# Altium schematic symbol library Silicon Labs Interface.SchLib: 24 symbols (part 2 of 2)
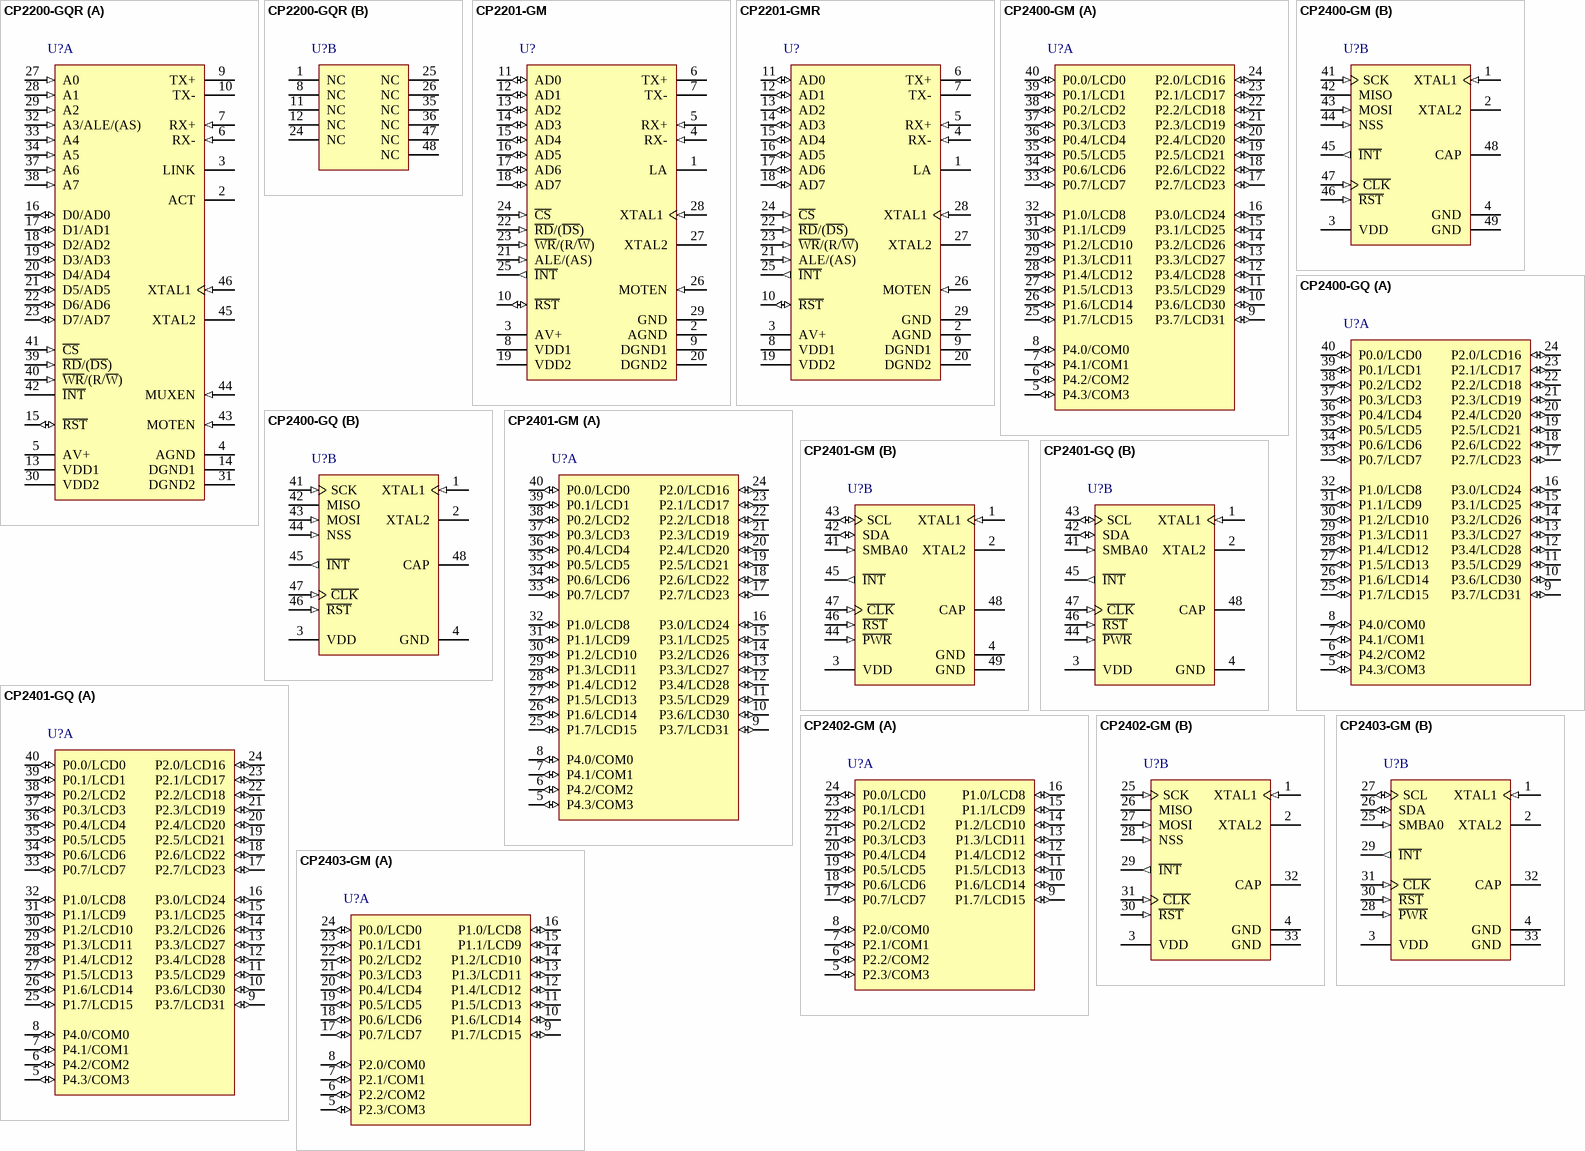
[diagram p2: symbols CP2200-GQR to CP2403-GM]

## CP2200-GQR
designator U?
Single-Chip Ethernet Controller, 30 Mbps, 8 kB Flash, -40 to 85 degC, 48-pin QFP, Tape and Reel; Manufacturer: Silicon Labs; PartNumber: CP2200-GQR; Flash: 8 kB; Parallel Host Interface: 8-bit non-multiplexed EMIF; Parallel Host Interface Speed: 30 Mbps; Pre-Programmed MAC Address: TRUE; RAM Size: 2 kB TX buffer; 4 kB RX buffer; Sub-Family: Ethernet Controllers; DatasheetVersion: Rev. 1.0; PackageReference: TQFP-48; PackageDescription: 48-pin TQFP, Body 7 x 7 mm, Pitch 0.5 mm; Supplier 1: Digi-Key; Supplier Part Number 1: CP2200-GQR-ND; Supplier 2: Mouser; Supplier Part Number 2: 634-CP2200-GQR; Packing: Tape and Reel; Mounting Technology: Surface Mount; Code_JEDEC: MS-026; Code_IPC: J-STD-020; ComponentLink1Description: Manufacturer URL; ComponentLink1URL: http://www.silabs.com/; ComponentLink2Description: Datasheet; ComponentLink2URL: http://www.silabs.com/Support Documents/TechnicalDocs/CP2200.pdf; ComponentLink3Description: Package Specification; ComponentLink3URL: http://www.silabs.com/Support%20Documents/TechnicalDocs/CP2200.pdf
footprint SLAB-TQFP-48_N (QFP, 48-Leads, Body 7x7mm, Pitch 0.5mm, IPC Medium Density)
footprint SLAB-TQFP-48_L (QFP, 48-Leads, Body 7x7mm, Pitch 0.5mm, IPC High Density)
footprint SLAB-TQFP-48_M (QFP, 48-Leads, Body 7x7mm, Pitch 0.5mm, IPC Low Density)
part A pins: 2 ACT (hiz) "Activity LED. Push-pull output driven high for 50 ms when any packet is transmitted or received and driven low all other times.", 3 LINK (hiz) "Link LED. Push-pull output driven high when valid 10BASE-T link pulses are detected (Link Good) and driven low when valid 10BASE-T link pulses are not detected (Link Fail).", 4 AGND (power) "Analog Ground", 5 AV+ (power) "3.1-3.6 V Analog Power Supply Voltage Input.", 6 RX- (in) "10BASE-T Receive, Differential Input (Negative).", 7 RX+ (in) "10BASE-T Receive, Differential Input (Positive).", 9 TX+ (hiz) "10BASE-T Transmit, Differential Output (Positive).", 10 TX- (hiz) "10BASE-T Transmit, Differential Output (Negative).", 13 VDD1 (power) "3.1-3.6 V Digital Power Supply Voltage Input.", 14 DGND1 (power) "Digital Ground", 15 ~{RST} (io) "Device Reset. Open-drain output of internal POR and VDD monitor. An external source can initiate a system reset by driving this pin low for at least 15 us.", 16 D0/AD0 (io), 17 D1/AD1 (io), 18 D2/AD2 (io), 19 D3/AD3 (io), 20 D4/AD4 (io), 21 D5/AD5 (io), 22 D6/AD6 (io), 23 D7/AD7 (io), 27 A0 (in) "Bit 0, Non-Multiplexed Address Bus", 28 A1 (in) "Bit 1, Non-Multiplexed Address Bus", 29 A2 (in) "Bit 2, Non-Multiplexed Address Bus", 30 VDD2 (power) "3.1-3.6 V Digital Power Supply Voltage Input.", 31 DGND2 (power) "Digital Ground", 32 A3/ALE/(AS) (in), 33 A4 (in) "Bit 4, Parallel Interface Non-Multiplexed Address Bus", 34 A5 (in) "Bit 5, Parallel Interface Non-Multiplexed Address Bus", 37 A6 (in) "Bit 6, Parallel Interface Non-Multiplexed Address Bus", 38 A7 (in) "Bit 7, Parallel Interface Non-Multiplexed Address Bus", 39 ~{RD}/(~{DS}) (in) "Read Strobe (Intel Mode) or Data Strobe (Motorola Mode)", 40 ~{WR}/(R/~{W}) (in) "Write Strobe (Intel Mode) or Read/Write Strobe (Motorola Mode)", 41 ~{CS} (in) "Device Chip Select.", 42 ~{INT} (hiz) "Interrupt Service Request. This pin provides notification to the host.", 43 MOTEN (in) "Motorola Bus Format Enable. This pin should be tied directly to VDD for Motorola bus format or directly to GND for Intel bus format.", 44 MUXEN (in) "Multiplexed Bus Enable. This pin should be tied directly to VDD for multiplexed bus mode or directly to GND for non-multiplexed bus mode.", 45 XTAL2 "Crystal Output. This pin is the excitation driver for a quartz crystal.", 46 XTAL1 (in) "Crystal Input. This pin is the return for the external oscillator driver. This pin can be overdriven by an external CMOS clock."
part B pins: 1 NC "These pins should be left unconnected or tied to VDD.", 8 NC "These pins should be left unconnected or tied to VDD.", 11 NC "These pins should be left unconnected or tied to VDD.", 12 NC "These pins should be left unconnected or tied to VDD.", 24 NC "These pins should be left unconnected or tied to VDD.", 25 NC "These pins should be left unconnected or tied to VDD.", 26 NC "These pins should be left unconnected or tied to VDD.", 35 NC "These pins should be left unconnected or tied to VDD.", 36 NC "These pins should be left unconnected or tied to VDD.", 47 NC "These pins should be left unconnected or tied to VDD.", 48 NC "These pins should be left unconnected or tied to VDD."

## CP2201-GM
designator U?
Single-Chip Ethernet Controller, 30 Mbps, 8 kB Flash, -40 to 85 degC, 28-pin QFN, Tube; Manufacturer: Silicon Labs; PartNumber: CP2201-GM; Flash: 8 kB; Parallel Host Interface: 8-bit multiplexed EMIF; Parallel Host Interface Speed: 30 Mbps; Pre-Programmed MAC Address: TRUE; RAM Size: 2 kB TX buffer; 4 kB RX buffer; Sub-Family: Ethernet Controllers; DatasheetVersion: Rev. 1.0; PackageReference: QFN-28; PackageDescription: 28-Pin Quad-Flat No-Leads Package, Body 5 x 5 mm, Pitch 0.5 mm; Supplier 1: Digi-Key; Supplier Part Number 1: 336-1313-ND; Supplier 2: Farnell; Supplier Part Number 2: 1186939; Supplier 3: Newark; Supplier Part Number 3: 96K8068; Supplier 4: Mouser; Supplier Part Number 4: 634-CP2201-GM; Packing: Tube; Mounting Technology: Surface Mount; ComponentLink1Description: Manufacturer URL; ComponentLink1URL: http://www.silabs.com/; ComponentLink2Description: Datasheet; ComponentLink2URL: http://www.silabs.com/Support Documents/TechnicalDocs/CP2200.pdf; ComponentLink3Description: Package Specification; ComponentLink3URL: http://www.silabs.com/Support%20Documents/TechnicalDocs/C8051F31x.pdf
footprint SLAB-QFN-28-3125x3125TP_B_V (QFN, 28-Leads, Body 5x5mm, Pitch 0.5mm, Thermal Pad 3.15x3.15mm)
pins: 1 LA (hiz) "Link or Activity LED. Push-pull output driven high when valid link pulses are detected (Link Good) and driven low otherwise (Link Fail). The output is toggled for each packet transmitted or received, then returns to its (See Datasheet)", 2 AGND (power) "Analog Ground", 3 AV+ (power) "3.1-3.6 V Analog Power Supply Voltage Input.", 4 RX- (in) "10BASE-T Receive, Differential Input (Negative).", 5 RX+ (in) "10BASE-T Receive, Differential Input (Positive).", 6 TX+ (hiz) "10BASE-T Transmit, Differential Output (Positive).", 7 TX- (hiz) "10BASE-T Transmit, Differential Output (Negative).", 8 VDD1 (power) "3.1-3.6 V Digital Power Supply Voltage Input.", 9 DGND1 (power) "Digital Ground", 10 ~{RST} (io) "Device Reset. Open-drain output of internal POR and VDD monitor. An external source can initiate a system reset by driving this pin low for at least 15 us.", 11 AD0 (io) "Bit 0, Non-Multiplexed Data Bus or Multiplexed Address/Data Bus", 12 AD1 (io) "Bit 1, Non-Multiplexed Data Bus or Multiplexed Address/Data Bus", 13 AD2 (io) "Bit 2, Non-Multiplexed Data Bus or Multiplexed Address/Data Bus", 14 AD3 (io) "Bit 3, Non-Multiplexed Data Bus or Multiplexed Address/Data Bus", 15 AD4 (io) "Bit 4, Non-Multiplexed Data Bus or Multiplexed Address/Data Bus", 16 AD5 (io) "Bit 5, Non-Multiplexed Data Bus or Multiplexed Address/Data Bus", 17 AD6 (io) "Bit 6, Non-Multiplexed Data Bus or Multiplexed Address/Data Bus", 18 AD7 (io) "Bit 7, Non-Multiplexed Data Bus or Multiplexed Address/Data Bus", 19 VDD2 (power) "3.1-3.6 V Digital Power Supply Voltage Input.", 20 DGND2 (power) "Digital Ground", 21 ALE/(AS) (in) "ALE Strobe (Intel Mode) Address Strobe (Motorola Mode)", 22 ~{RD}/(~{DS}) (in) "Read Strobe (Intel Mode) or Data Strobe (Motorola Mode)", 23 ~{WR}/(R/~{W}) (in) "Write Strobe (Intel Mode) or Read/Write Strobe (Motorola Mode)", 24 ~{CS} (in) "Device Chip Select.", 25 ~{INT} (out) "Interrupt Service Request. This pin provides notification to the host.", 26 MOTEN (in) "Motorola Bus Format Enable. This pin should be tied directly to VDD for Motorola bus format or directly to GND for Intel bus format.", 27 XTAL2 "Crystal Output. This pin is the excitation driver for a quartz crystal.", 28 XTAL1 (in) "Crystal Input. This pin is the return for the external oscillator driver. This pin can be overdriven by an external CMOS clock.", 29 GND (power)

## CP2201-GMR
designator U?
Single-Chip Ethernet Controller, 30 Mbps, 8 kB Flash, -40 to 85 degC, 28-pin QFN, Tape and Reel; Manufacturer: Silicon Labs; PartNumber: CP2201-GMR; Flash: 8 kB; Parallel Host Interface: 8-bit multiplexed EMIF; Parallel Host Interface Speed: 30 Mbps; Pre-Programmed MAC Address: TRUE; RAM Size: 2 kB TX buffer; 4 kB RX buffer; Sub-Family: Ethernet Controllers; DatasheetVersion: Rev. 1.0; PackageReference: QFN-28; PackageDescription: 28-Pin Quad-Flat No-Leads Package, Body 5 x 5 mm, Pitch 0.5 mm; Supplier 1: Digi-Key; Supplier Part Number 1: CP2201-GMR-ND; Supplier 2: Mouser; Supplier Part Number 2: 634-CP2201-GMR; Packing: Tape and Reel; Mounting Technology: Surface Mount; ComponentLink1Description: Manufacturer URL; ComponentLink1URL: http://www.silabs.com/; ComponentLink2Description: Datasheet; ComponentLink2URL: http://www.silabs.com/Support Documents/TechnicalDocs/CP2200.pdf; ComponentLink3Description: Package Specification; ComponentLink3URL: http://www.silabs.com/Support%20Documents/TechnicalDocs/C8051F31x.pdf
footprint SLAB-QFN-28-3125x3125TP_B_V (QFN, 28-Leads, Body 5x5mm, Pitch 0.5mm, Thermal Pad 3.15x3.15mm)
pins: 1 LA (hiz) "Link or Activity LED. Push-pull output driven high when valid link pulses are detected (Link Good) and driven low otherwise (Link Fail). The output is toggled for each packet transmitted or received, then returns to its (See Datasheet)", 2 AGND (power) "Analog Ground", 3 AV+ (power) "3.1-3.6 V Analog Power Supply Voltage Input.", 4 RX- (in) "10BASE-T Receive, Differential Input (Negative).", 5 RX+ (in) "10BASE-T Receive, Differential Input (Positive).", 6 TX+ (hiz) "10BASE-T Transmit, Differential Output (Positive).", 7 TX- (hiz) "10BASE-T Transmit, Differential Output (Negative).", 8 VDD1 (power) "3.1-3.6 V Digital Power Supply Voltage Input.", 9 DGND1 (power) "Digital Ground", 10 ~{RST} (io) "Device Reset. Open-drain output of internal POR and VDD monitor. An external source can initiate a system reset by driving this pin low for at least 15 us.", 11 AD0 (io) "Bit 0, Non-Multiplexed Data Bus or Multiplexed Address/Data Bus", 12 AD1 (io) "Bit 1, Non-Multiplexed Data Bus or Multiplexed Address/Data Bus", 13 AD2 (io) "Bit 2, Non-Multiplexed Data Bus or Multiplexed Address/Data Bus", 14 AD3 (io) "Bit 3, Non-Multiplexed Data Bus or Multiplexed Address/Data Bus", 15 AD4 (io) "Bit 4, Non-Multiplexed Data Bus or Multiplexed Address/Data Bus", 16 AD5 (io) "Bit 5, Non-Multiplexed Data Bus or Multiplexed Address/Data Bus", 17 AD6 (io) "Bit 6, Non-Multiplexed Data Bus or Multiplexed Address/Data Bus", 18 AD7 (io) "Bit 7, Non-Multiplexed Data Bus or Multiplexed Address/Data Bus", 19 VDD2 (power) "3.1-3.6 V Digital Power Supply Voltage Input.", 20 DGND2 (power) "Digital Ground", 21 ALE/(AS) (in) "ALE Strobe (Intel Mode) Address Strobe (Motorola Mode)", 22 ~{RD}/(~{DS}) (in) "Read Strobe (Intel Mode) or Data Strobe (Motorola Mode)", 23 ~{WR}/(R/~{W}) (in) "Write Strobe (Intel Mode) or Read/Write Strobe (Motorola Mode)", 24 ~{CS} (in) "Device Chip Select.", 25 ~{INT} (out) "Interrupt Service Request. This pin provides notification to the host.", 26 MOTEN (in) "Motorola Bus Format Enable. This pin should be tied directly to VDD for Motorola bus format or directly to GND for Intel bus format.", 27 XTAL2 "Crystal Output. This pin is the excitation driver for a quartz crystal.", 28 XTAL1 (in) "Crystal Input. This pin is the return for the external oscillator driver. This pin can be overdriven by an external CMOS clock.", 29 GND (power)

## CP2400-GM
designator U?
128 Segment LCD Driver, Ultra-low power mode, SPI Interface, -40 to 85 degC, 48-pin QFN, Tube; Manufacturer: Silicon Labs; PartNumber: CP2400-GM; Internal Oscillator: TRUE; LCD Segments: 128; RAM: 256 Bytes; Timers (16-bit): 2; Sub-Family: LCD Controllers; DatasheetVersion: Rev. 1.0; PackageReference: QFN-48; PackageDescription: 48-Pin Quad-Flat No-Leads Package, Body 7 x 7 mm, Pitch 0.5 mm; Supplier 1: Digi-Key; Supplier Part Number 1: 336-1855-5-ND; Supplier 2: Mouser; Supplier Part Number 2: 634-CP2400-GM; Mounting Technology: Surface Mount; Code_JEDEC: MO-220; Code_IPC: J-STD-020; ComponentLink1Description: Manufacturer URL; ComponentLink1URL: http://www.silabs.com/; ComponentLink2Description: Datasheet; ComponentLink2URL: http://www.silabs.com/Support Documents/TechnicalDocs/CP2400-1-2-3.pdf; ComponentLink3Description: Package Specification; ComponentLink3URL: http://www.silabs.com/Support%20Documents/TechnicalDocs/C8051F50x-51x.pdf
footprint SLAB-QFN-48-4000x4000TP_N (QFN, 48-Leads, Body 7x7mm, Pitch 0.5mm, Thermal Pad 4x4mm, IPC Medium Density)
footprint SLAB-QFN-48-4000x4000TP_L (QFN, 48-Leads, Body 7x7mm, Pitch 0.5mm, Thermal Pad 4x4mm, IPC High Density)
footprint SLAB-QFN-48-4000x4000TP_M (QFN, 48-Leads, Body 7x7mm, Pitch 0.5mm, Thermal Pad 4x4mm, IPC Low Density)
part A pins: 5 P4.3/COM3 (io), 6 P4.2/COM2 (io), 7 P4.1/COM1 (io), 8 P4.0/COM0 (io), 9 P3.7/LCD31 (io), 10 P3.6/LCD30 (io), 11 P3.5/LCD29 (io), 12 P3.4/LCD28 (io), 13 P3.3/LCD27 (io), 14 P3.2/LCD26 (io), 15 P3.1/LCD25 (io), 16 P3.0/LCD24 (io), 17 P2.7/LCD23 (io), 18 P2.6/LCD22 (io), 19 P2.5/LCD21 (io), 20 P2.4/LCD20 (io), 21 P2.3/LCD19 (io), 22 P2.2/LCD18 (io), 23 P2.1/LCD17 (io), 24 P2.0/LCD16 (io), 25 P1.7/LCD15 (io), 26 P1.6/LCD14 (io), 27 P1.5/LCD13 (io), 28 P1.4/LCD12 (io), 29 P1.3/LCD11 (io), 30 P1.2/LCD10 (io), 31 P1.1/LCD9 (io), 32 P1.0/LCD8 (io), 33 P0.7/LCD7 (io), 34 P0.6/LCD6 (io), 35 P0.5/LCD5 (io), 36 P0.4/LCD4 (io), 37 P0.3/LCD3 (io), 38 P0.2/LCD2 (io), 39 P0.1/LCD1 (io), 40 P0.0/LCD0 (io)
part B pins: 1 XTAL1 (in) "Crystal Input. This pin is the return for the external oscillator driver. This pin can be overdriven by an external CMOS clock.", 2 XTAL2 "Crystal Output. This pin is the excitation driver for a quartz crystal.", 3 VDD (power) "1.8-3.6 V Power Supply Voltage Input.", 4 GND (power) "Ground", 41 SCK (in) "Clock signal for SPI interface. This pin should not be left floating.", 42 MISO (hiz) "Master In/Slave Out data signal for SPI interface", 43 MOSI (in) "Master Out/Slave In data signal for SPI interface. This pin should not be left floating.", 44 NSS (in) "Slave select signal for SPI interface. This pin should not be left floating.", 45 ~{INT} (out) "Interrupt Service Request. This pin provides notification to the host. This pin is a push-pull output.", 46 ~{RST} (in) "Device Reset. An external source can initiate a system reset by driving this pin low for at least 15 us. This pin has an internal weak pullup.", 47 ~{CLK} (in) "CMOS clock input. This pin should not be left floating.", 48 CAP (power) "LCD Power Supply Voltage Output. This pin requires a 10 uF decoupling capacitor.", 49 GND (power) "Ground"

## CP2400-GQ
designator U?
128 Segment LCD Driver, Ultra-low power mode, SPI Interface, -40 to 85 degC, 48-pin QFP, Tray; Manufacturer: Silicon Labs; PartNumber: CP2400-GQ; Internal Oscillator: TRUE; LCD Segments: 128; RAM: 256 Bytes; Timers (16-bit): 2; Sub-Family: LCD Controllers; DatasheetVersion: Rev. 1.0; PackageReference: TQFP-48; PackageDescription: 48-pin TQFP, Body 7 x 7 mm, Pitch 0.5 mm; Supplier 1: Digi-Key; Supplier Part Number 1: 336-1856-ND; Supplier 2: Mouser; Supplier Part Number 2: 634-CP2400-GQ; Mounting Technology: Surface Mount; Code_JEDEC: MS-026; Code_IPC: J-STD-020; ComponentLink1Description: Manufacturer URL; ComponentLink1URL: http://www.silabs.com/; ComponentLink2Description: Datasheet; ComponentLink2URL: http://www.silabs.com/Support Documents/TechnicalDocs/CP2400-1-2-3.pdf; ComponentLink3Description: Package Specification; ComponentLink3URL: http://www.silabs.com/Support%20Documents/TechnicalDocs/CP2200.pdf
footprint SLAB-TQFP-48_N (QFP, 48-Leads, Body 7x7mm, Pitch 0.5mm, IPC Medium Density)
footprint SLAB-TQFP-48_L (QFP, 48-Leads, Body 7x7mm, Pitch 0.5mm, IPC High Density)
footprint SLAB-TQFP-48_M (QFP, 48-Leads, Body 7x7mm, Pitch 0.5mm, IPC Low Density)
part A pins: 5 P4.3/COM3 (io), 6 P4.2/COM2 (io), 7 P4.1/COM1 (io), 8 P4.0/COM0 (io), 9 P3.7/LCD31 (io), 10 P3.6/LCD30 (io), 11 P3.5/LCD29 (io), 12 P3.4/LCD28 (io), 13 P3.3/LCD27 (io), 14 P3.2/LCD26 (io), 15 P3.1/LCD25 (io), 16 P3.0/LCD24 (io), 17 P2.7/LCD23 (io), 18 P2.6/LCD22 (io), 19 P2.5/LCD21 (io), 20 P2.4/LCD20 (io), 21 P2.3/LCD19 (io), 22 P2.2/LCD18 (io), 23 P2.1/LCD17 (io), 24 P2.0/LCD16 (io), 25 P1.7/LCD15 (io), 26 P1.6/LCD14 (io), 27 P1.5/LCD13 (io), 28 P1.4/LCD12 (io), 29 P1.3/LCD11 (io), 30 P1.2/LCD10 (io), 31 P1.1/LCD9 (io), 32 P1.0/LCD8 (io), 33 P0.7/LCD7 (io), 34 P0.6/LCD6 (io), 35 P0.5/LCD5 (io), 36 P0.4/LCD4 (io), 37 P0.3/LCD3 (io), 38 P0.2/LCD2 (io), 39 P0.1/LCD1 (io), 40 P0.0/LCD0 (io)
part B pins: 1 XTAL1 (in) "Crystal Input. This pin is the return for the external oscillator driver. This pin can be overdriven by an external CMOS clock.", 2 XTAL2 "Crystal Output. This pin is the excitation driver for a quartz crystal.", 3 VDD (power) "1.8-3.6 V Power Supply Voltage Input.", 4 GND (power) "Ground", 41 SCK (in) "Clock signal for SPI interface. This pin should not be left floating.", 42 MISO (hiz) "Master In/Slave Out data signal for SPI interface", 43 MOSI (in) "Master Out/Slave In data signal for SPI interface. This pin should not be left floating.", 44 NSS (in) "Slave select signal for SPI interface. This pin should not be left floating.", 45 ~{INT} (out) "Interrupt Service Request. This pin provides notification to the host. This pin is a push-pull output.", 46 ~{RST} (in) "Device Reset. An external source can initiate a system reset by driving this pin low for at least 15 us. This pin has an internal weak pullup.", 47 ~{CLK} (in) "CMOS clock input. This pin should not be left floating.", 48 CAP (power) "LCD Power Supply Voltage Output. This pin requires a 10 uF decoupling capacitor."

## CP2401-GM
designator U?
128 Segment LCD Driver, Ultra-low power mode, SMBus / I2C Interface, -40 to 85 degC, 48-pin QFN, Tube; Manufacturer: Silicon Labs; PartNumber: CP2401-GM; Internal Oscillator: TRUE; LCD Segments: 128; RAM: 256 Bytes; Timers (16-bit): 2; Sub-Family: LCD Controllers; DatasheetVersion: Rev. 1.0; PackageReference: QFN-48; PackageDescription: 48-Pin Quad-Flat No-Leads Package, Body 7 x 7 mm, Pitch 0.5 mm; Supplier 1: Digi-Key; Supplier Part Number 1: 336-1859-5-ND; Supplier 2: Mouser; Supplier Part Number 2: 634-CP2401-GM; Mounting Technology: Surface Mount; Code_JEDEC: MO-220; Code_IPC: J-STD-020; ComponentLink1Description: Manufacturer URL; ComponentLink1URL: http://www.silabs.com/; ComponentLink2Description: Datasheet; ComponentLink2URL: http://www.silabs.com/Support Documents/TechnicalDocs/CP2400-1-2-3.pdf; ComponentLink3Description: Package Specification; ComponentLink3URL: http://www.silabs.com/Support%20Documents/TechnicalDocs/C8051F50x-51x.pdf
footprint SLAB-QFN-48-4000x4000TP_N (QFN, 48-Leads, Body 7x7mm, Pitch 0.5mm, Thermal Pad 4x4mm, IPC Medium Density)
footprint SLAB-QFN-48-4000x4000TP_L (QFN, 48-Leads, Body 7x7mm, Pitch 0.5mm, Thermal Pad 4x4mm, IPC High Density)
footprint SLAB-QFN-48-4000x4000TP_M (QFN, 48-Leads, Body 7x7mm, Pitch 0.5mm, Thermal Pad 4x4mm, IPC Low Density)
part A pins: 5 P4.3/COM3 (io), 6 P4.2/COM2 (io), 7 P4.1/COM1 (io), 8 P4.0/COM0 (io), 9 P3.7/LCD31 (io), 10 P3.6/LCD30 (io), 11 P3.5/LCD29 (io), 12 P3.4/LCD28 (io), 13 P3.3/LCD27 (io), 14 P3.2/LCD26 (io), 15 P3.1/LCD25 (io), 16 P3.0/LCD24 (io), 17 P2.7/LCD23 (io), 18 P2.6/LCD22 (io), 19 P2.5/LCD21 (io), 20 P2.4/LCD20 (io), 21 P2.3/LCD19 (io), 22 P2.2/LCD18 (io), 23 P2.1/LCD17 (io), 24 P2.0/LCD16 (io), 25 P1.7/LCD15 (io), 26 P1.6/LCD14 (io), 27 P1.5/LCD13 (io), 28 P1.4/LCD12 (io), 29 P1.3/LCD11 (io), 30 P1.2/LCD10 (io), 31 P1.1/LCD9 (io), 32 P1.0/LCD8 (io), 33 P0.7/LCD7 (io), 34 P0.6/LCD6 (io), 35 P0.5/LCD5 (io), 36 P0.4/LCD4 (io), 37 P0.3/LCD3 (io), 38 P0.2/LCD2 (io), 39 P0.1/LCD1 (io), 40 P0.0/LCD0 (io)
part B pins: 1 XTAL1 (in) "Crystal Input. This pin is the return for the external oscillator driver. This pin can be overdriven by an external CMOS clock.", 2 XTAL2 "Crystal Output. This pin is the excitation driver for a quartz crystal.", 3 VDD (power) "1.8-3.6 V Power Supply Voltage Input.", 4 GND (power) "Ground", 41 SMBA0 (in) "Bit 0, SMBus Slave Address. This pin should not be left floating", 42 SDA (io) "Data signal for SMBus interface. This pin should not be left floating.", 43 SCL (io) "Clock signal for SMBus interface. This pin should not be left floating.", 44 ~{PWR} (in) "Allows SMBus device to enter the Ultra Low Power mode. This pin should not be left floating.", 45 ~{INT} (out) "Interrupt Service Request. This pin provides notification to the host. This pin is a push-pull output.", 46 ~{RST} (in) "Device Reset. An external source can initiate a system reset by driving this pin low for at least 15 us. This pin has an internal weak pullup", 47 ~{CLK} (in) "CMOS clock input. This pin should not be left floating.", 48 CAP (power) "LCD Power Supply Voltage Output. This pin requires a 10 uF decoupling capacitor.", 49 GND (power) "Ground"

## CP2401-GQ
designator U?
128 Segment LCD Driver, Ultra-low power mode, SMBus / I2C Interface, -40 to 85 degC, 48-pin QFP, Tray; Manufacturer: Silicon Labs; PartNumber: CP2401-GQ; Internal Oscillator: TRUE; LCD Segments: 128; RAM: 256 Bytes; Timers (16-bit): 2; Sub-Family: LCD Controllers; DatasheetVersion: Rev. 1.0; PackageReference: TQFP-48; PackageDescription: 48-pin TQFP, Body 7 x 7 mm, Pitch 0.5 mm; Supplier 1: Digi-Key; Supplier Part Number 1: 336-1860-ND; Supplier 2: Mouser; Supplier Part Number 2: 634-CP2401-GQ; Mounting Technology: Surface Mount; Code_JEDEC: MS-026; Code_IPC: J-STD-020; ComponentLink1Description: Manufacturer URL; ComponentLink1URL: http://www.silabs.com/; ComponentLink2Description: Datasheet; ComponentLink2URL: http://www.silabs.com/Support Documents/TechnicalDocs/CP2400-1-2-3.pdf; ComponentLink3Description: Package Specification; ComponentLink3URL: http://www.silabs.com/Support%20Documents/TechnicalDocs/CP2200.pdf
footprint SLAB-TQFP-48_N (QFP, 48-Leads, Body 7x7mm, Pitch 0.5mm, IPC Medium Density)
footprint SLAB-TQFP-48_L (QFP, 48-Leads, Body 7x7mm, Pitch 0.5mm, IPC High Density)
footprint SLAB-TQFP-48_M (QFP, 48-Leads, Body 7x7mm, Pitch 0.5mm, IPC Low Density)
part A pins: 5 P4.3/COM3 (io), 6 P4.2/COM2 (io), 7 P4.1/COM1 (io), 8 P4.0/COM0 (io), 9 P3.7/LCD31 (io), 10 P3.6/LCD30 (io), 11 P3.5/LCD29 (io), 12 P3.4/LCD28 (io), 13 P3.3/LCD27 (io), 14 P3.2/LCD26 (io), 15 P3.1/LCD25 (io), 16 P3.0/LCD24 (io), 17 P2.7/LCD23 (io), 18 P2.6/LCD22 (io), 19 P2.5/LCD21 (io), 20 P2.4/LCD20 (io), 21 P2.3/LCD19 (io), 22 P2.2/LCD18 (io), 23 P2.1/LCD17 (io), 24 P2.0/LCD16 (io), 25 P1.7/LCD15 (io), 26 P1.6/LCD14 (io), 27 P1.5/LCD13 (io), 28 P1.4/LCD12 (io), 29 P1.3/LCD11 (io), 30 P1.2/LCD10 (io), 31 P1.1/LCD9 (io), 32 P1.0/LCD8 (io), 33 P0.7/LCD7 (io), 34 P0.6/LCD6 (io), 35 P0.5/LCD5 (io), 36 P0.4/LCD4 (io), 37 P0.3/LCD3 (io), 38 P0.2/LCD2 (io), 39 P0.1/LCD1 (io), 40 P0.0/LCD0 (io)
part B pins: 1 XTAL1 (in) "Crystal Input. This pin is the return for the external oscillator driver. This pin can be overdriven by an external CMOS clock.", 2 XTAL2 "Crystal Output. This pin is the excitation driver for a quartz crystal.", 3 VDD (power) "1.8-3.6 V Power Supply Voltage Input.", 4 GND (power) "Ground", 41 SMBA0 (in) "Bit 0, SMBus Slave Address. This pin should not be left floating", 42 SDA (io) "Data signal for SMBus interface. This pin should not be left floating.", 43 SCL (io) "Clock signal for SMBus interface. This pin should not be left floating.", 44 ~{PWR} (in) "Allows SMBus device to enter the Ultra Low Power mode. This pin should not be left floating.", 45 ~{INT} (out) "Interrupt Service Request. This pin provides notification to the host. This pin is a push-pull output.", 46 ~{RST} (in) "Device Reset. An external source can initiate a system reset by driving this pin low for at least 15 us. This pin has an internal weak pullup", 47 ~{CLK} (in) "CMOS clock input. This pin should not be left floating.", 48 CAP (power) "LCD Power Supply Voltage Output. This pin requires a 10 uF decoupling capacitor."

## CP2402-GM
designator U?
64 Segment LCD Driver, Ultra-low power mode, SPI Interface, -40 to 85 degC, 32-pin QFN, Tube; Manufacturer: Silicon Labs; PartNumber: CP2402-GM; Internal Oscillator: TRUE; LCD Segments: 64; RAM: 256 Bytes; Timers (16-bit): 2; Sub-Family: LCD Controllers; DatasheetVersion: Rev. 1.0; PackageReference: QFN-32; PackageDescription: 32-Pin Quad-Flat No-Leads Package, Body 5 x 5 mm, Pitch 0.5 mm; Supplier 1: Digi-Key; Supplier Part Number 1: 336-1863-5-ND; Supplier 2: Mouser; Supplier Part Number 2: 634-CP2402-GM; Mounting Technology: Surface Mount; Code_JEDEC: MO-220; Code_IPC: J-STD-020; ComponentLink1Description: Manufacturer URL; ComponentLink1URL: http://www.silabs.com/; ComponentLink2Description: Datasheet; ComponentLink2URL: http://www.silabs.com/Support Documents/TechnicalDocs/CP2400-1-2-3.pdf; ComponentLink3Description: Package Specification; ComponentLink3URL: http://www.silabs.com/Support%20Documents/TechnicalDocs/C8051F50x-51x.pdf
footprint SLAB-QFN-32-3300x3300TP_N (QFN, 32-Leads, Body 5x5mm, Pitch 0.5mm, Thermal Pad 3.3x3.3mm, IPC Medium Density)
footprint SLAB-QFN-32-3300x3300TP_L (QFN, 32-Leads, Body 5x5mm, Pitch 0.5mm, Thermal Pad 3.3x3.3mm, IPC High Density)
footprint SLAB-QFN-32-3300x3300TP_M (QFN, 32-Leads, Body 5x5mm, Pitch 0.5mm, Thermal Pad 3.3x3.3mm, IPC Low Density)
part A pins: 5 P2.3/COM3 (io), 6 P2.2/COM2 (io), 7 P2.1/COM1 (io), 8 P2.0/COM0 (io), 9 P1.7/LCD15 (io), 10 P1.6/LCD14 (io), 11 P1.5/LCD13 (io), 12 P1.4/LCD12 (io), 13 P1.3/LCD11 (io), 14 P1.2/LCD10 (io), 15 P1.1/LCD9 (io), 16 P1.0/LCD8 (io), 17 P0.7/LCD7 (io), 18 P0.6/LCD6 (io), 19 P0.5/LCD5 (io), 20 P0.4/LCD4 (io), 21 P0.3/LCD3 (io), 22 P0.2/LCD2 (io), 23 P0.1/LCD1 (io), 24 P0.0/LCD0 (io)
part B pins: 1 XTAL1 (in) "Crystal Input. This pin is the return for the external oscillator driver. This pin can be overdriven by an external CMOS clock", 2 XTAL2 "Crystal Output. This pin is the excitation driver for a quartz crystal.", 3 VDD (power) "1.8-3.6 V Power Supply Voltage Input.", 4 GND (power) "Ground", 25 SCK (in) "Clock signal for SPI interface. This pin should not be left floating.", 26 MISO (hiz) "Master In/Slave Out data signal for SPI interface", 27 MOSI (in) "Master Out/Slave In data signal for SPI interface. This pin should not be left floating", 28 NSS (in) "Slave select signal for SPI interface. This pin should not be left floating.", 29 ~{INT} (out) "Interrupt Service Request. This pin provides notification to the host. This pin is a push-pull output.", 30 ~{RST} (in) "Device Reset. An external source can initiate a system reset by driving this pin low for at least 15 us. This pin has an internal weak pullup.", 31 ~{CLK} (in) "CMOS clock input. This pin should not be left floating.", 32 CAP (power) "LCD Power Supply Voltage Output. This pin requires a 10 uF decoupling capacitor.", 33 GND (power) "Ground"

## CP2403-GM
designator U?
64 Segment LCD Driver, Ultra-low power mode, SMBus / I2C Interface, -40 to 85 degC, 32-pin QFN ,Tube; Manufacturer: Silicon Labs; PartNumber: CP2403-GM; Internal Oscillator: TRUE; LCD Segments: 64; RAM: 256 Bytes; Timers (16-bit): 2; Sub-Family: LCD Controllers; DatasheetVersion: Rev. 1.0; PackageReference: QFN-32; PackageDescription: 32-Pin Quad-Flat No-Leads Package, Body 5 x 5 mm, Pitch 0.5 mm; Supplier 1: Digi-Key; Supplier Part Number 1: 336-1864-5-ND; Supplier 2: Mouser; Supplier Part Number 2: 634-CP2403-GM; Mounting Technology: Surface Mount; Code_JEDEC: MO-220; Code_IPC: J-STD-020; ComponentLink1Description: Manufacturer URL; ComponentLink1URL: http://www.silabs.com/; ComponentLink2Description: Datasheet; ComponentLink2URL: http://www.silabs.com/Support Documents/TechnicalDocs/CP2400-1-2-3.pdf; ComponentLink3Description: Package Specification; ComponentLink3URL: http://www.silabs.com/Support%20Documents/TechnicalDocs/C8051F50x-51x.pdf
footprint SLAB-QFN-32-3300x3300TP_N (QFN, 32-Leads, Body 5x5mm, Pitch 0.5mm, Thermal Pad 3.3x3.3mm, IPC Medium Density)
footprint SLAB-QFN-32-3300x3300TP_L (QFN, 32-Leads, Body 5x5mm, Pitch 0.5mm, Thermal Pad 3.3x3.3mm, IPC High Density)
footprint SLAB-QFN-32-3300x3300TP_M (QFN, 32-Leads, Body 5x5mm, Pitch 0.5mm, Thermal Pad 3.3x3.3mm, IPC Low Density)
part A pins: 5 P2.3/COM3 (io), 6 P2.2/COM2 (io), 7 P2.1/COM1 (io), 8 P2.0/COM0 (io), 9 P1.7/LCD15 (io), 10 P1.6/LCD14 (io), 11 P1.5/LCD13 (io), 12 P1.4/LCD12 (io), 13 P1.3/LCD11 (io), 14 P1.2/LCD10 (io), 15 P1.1/LCD9 (io), 16 P1.0/LCD8 (io), 17 P0.7/LCD7 (io), 18 P0.6/LCD6 (io), 19 P0.5/LCD5 (io), 20 P0.4/LCD4 (io), 21 P0.3/LCD3 (io), 22 P0.2/LCD2 (io), 23 P0.1/LCD1 (io), 24 P0.0/LCD0 (io)
part B pins: 1 XTAL1 (in) "Crystal Input. This pin is the return for the external oscillator driver. This pin can be overdriven by an external CMOS clock.", 2 XTAL2 "Crystal Output. This pin is the excitation driver for a quartz crystal.", 3 VDD (power) "1.8-3.6 V Power Supply Voltage Input.", 4 GND (power) "Ground", 25 SMBA0 (in) "Bit 0, SMBus Slave Address. This pin should not be left floating.", 26 SDA (io) "Data signal for SMBus interface. This pin should not be left floating.", 27 SCL (io) "Clock signal for SMBus interface. This pin should not be left floating.", 28 ~{PWR} (in) "Allows SMBus device to enter the Ultra Low Power mode. This pin should not be left floating.", 29 ~{INT} (out) "Interrupt Service Request. This pin provides notification to the host. This pin is a push-pull output.", 30 ~{RST} (in) "Device Reset. An external source can initiate a system reset by driving this pin low for at least 15 us. This pin has an internal weak pullup.", 31 ~{CLK} (in) "CMOS clock input. This pin should not be left floating.", 32 CAP (power) "LCD Power Supply Voltage Output. This pin requires a 10 uF decoupling capacitor.", 33 GND (power)